# Altium footprint library higgsant.PcbLib: 1 footprints
Each footprint in its own frame and in the unit in brackets; x right, y up, seen from the top. Pads: shape width x height; smd on the part's side, far side on the other; paste and mask are expansions set on the pad; w line width, h text height; cw(c..) or ccw(c..) is an arc to the next point about the centre after c.
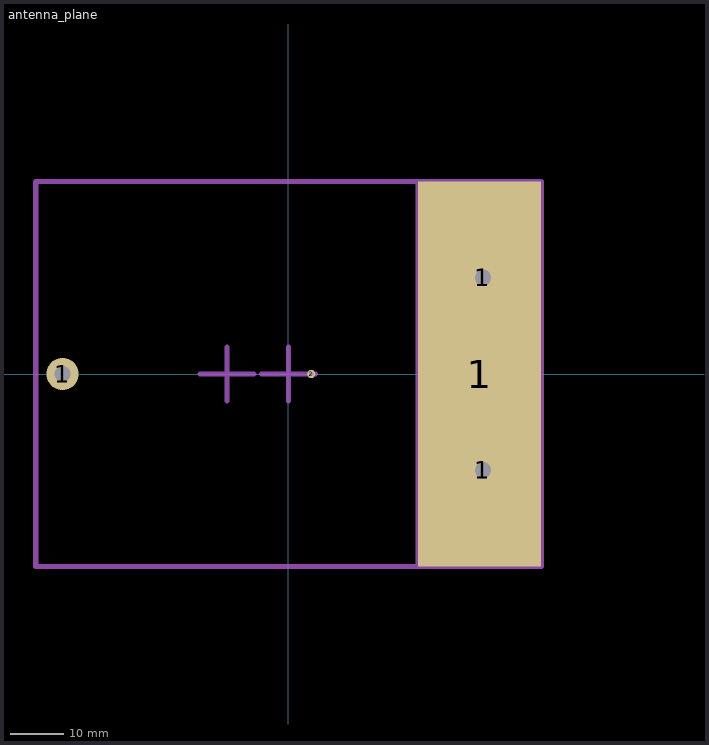
[diagram p0: the footprint, top view; thin cyan lines are the x and y axes]

## antenna_plane [mm] "sheetmetal antenna plane"
pads (5):
  round 6 hole 3 paste-1.5: 1(-42.25,0) 1(36.35,-18)
  rect 23x72 smd paste-11.5: 1(35.75,0)
  round 6 hole 3 paste-1.5 mask+3: 1(36.35,18)
  round 1.524 / inner round 0 / far side round 1.524 hole 0.762: 2(4.25,0)
Mechanical 15:
  lines w1: -16.5,0 -6.5,0 ; -11.5,-5 -11.5,5 ; -5,0 5,0 ; 0,-5 0,5 ; 24.25,-36 24.25,36 ; -47.25,-36 47.25,-36 47.25,36 -47.25,36 -47.25,-36
3D body "antenna_plane.STEP": height 10.9, standoff 0, extent -47.25,-36 47.25,36